# Altium schematic symbol library GradPcb_schlib.SCHLIB: 12 symbols
Pins are listed as number, name and electrical type; pins without a type are passive.

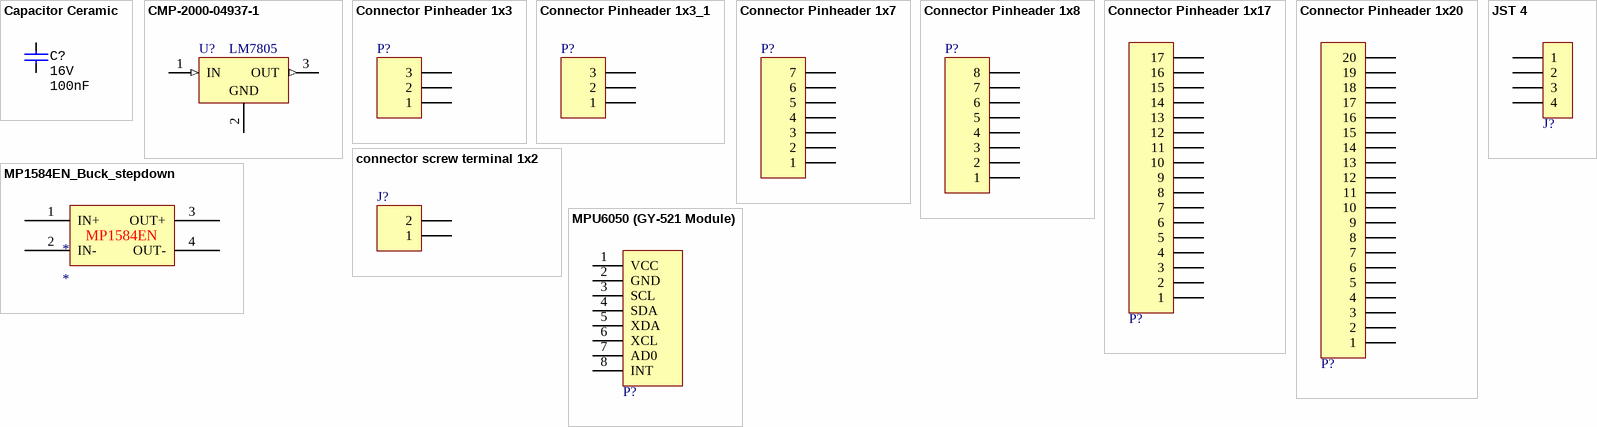
[diagram p0: symbols Capacitor Ceramic to MPU6050 (GY-521 Module)]

## Capacitor Ceramic
designator C?, comment Voltage: 16V  (hidden comment: 100nF)
Manufacturer: Yageo; Part Number: CC0201KRX7R7BB103; Supplier: Digi-Key; Supplier Part Number: 311-1404-2-ND; Capacitance: 100nF
footprint Cap ceramic TH C025-024X044
footprint Cap ceramic TH C025-025X050
footprint Cap ceramic TH C050-025X075
footprint CAP Ceramic SMD 0201
footprint CAP Ceramic SMD 0402
footprint CAP Ceramic SMD 0603
footprint CAP Ceramic SMD 0805
footprint CAP Ceramic SMD 1206
footprint CAP Ceramic SMD 1210
footprint CAP Ceramic SMD 1812
footprint CAP Ceramic SMD 2220
footprint CAP Ceramic TH AY2102M29Y5US63L7 ((220nF))
footprint Cap ceramic TH C025-024X044
footprint Cap ceramic TH C025-025X050
footprint Cap ceramic TH C050-025X075
footprint CAP CERAMIC TH VY2
footprint CAP CERAMIC TH 2.54MM
footprint CAP CERAMIC TH 5.08MM
pins: 1, 2

## CMP-2000-04937-1
designator U?, comment LM7805
Positive Voltage Regulator, 5 V, 1 A, 0 to 125 degC, 3-Pin TO-220, RoHS, Tube; Manufacturer: Fairchild; Manufacturer: onsemi; Manufacturer Part Number: LM7805ACT; Number of Outputs: 1; Typical Dropout Voltage @ Current: 2V@1A; Output Type: Fixed; Output Voltage: 5V; Quiescent Current: 6mA; Dropout Voltage Measurement Current: 1A; Line Regulation: 50mV; Maximum Input Voltage: 35V; Regulator Function: Linear; Load Regulation: 100mV; Package Type: TO-220; Mounting Type: ThroughHole; Height: 16.51mm; Maximum Operating Temperature: +125degC; Datasheet Version: Rev. 1.0.1, 05/2006; Package Reference: TO-220; Minimum Operating Temperature: 0degC; Manufacturer URL: https://www.fairchildsemi.com/; Package URL: https://www.fairchildsemi.com/package-drawings/TO/TO220B03.pdf; Length: 10.67mm; Series: LM78xx; Dimensions: 10.67x4.83x16.51mm; Polarity: Positive; Maximum Output Current: 1A; Pin Count: 3; Width: 4.83mm; Package Description: 3-Pin Through Hole Device, Body 10 x 4.5 mm, Pitch 2.54 mm; Datasheet URL: https://datasheet.ciiva.com/5816/1359194-5816420.pdf
footprint FAIR-TO-220-3 (FM, 3-Leads, Body 10.2x4.7mm, Pitch 2.54mm)
pins: 1 IN (in), 2 GND (power), 3 OUT (out)

## Connector Pinheader 1x3
designator P?  (value not drawn)
Header_3x1
footprint Header 1.27X3
footprint Header 2.54X3
footprint Header F 2.54X3
footprint Header H 2.54X3
footprint Header F 1.27X3
pins: 1, 2, 3

## Connector Pinheader 1x3_1
designator P?, comment Connector Pinheader 1x3  (value not drawn)
Header_3x1
footprint Header 1.27X3
footprint Header 2.54X3
footprint Header F 2.54X3
footprint Header H 2.54X3
footprint Header F 1.27X3
pins: 1, 2, 3

## Connector Pinheader 1x7
designator P?  (value not drawn)
Header_7x1
footprint Header 1.27X7
footprint Header 2.54X7
footprint Header F 2.54X7
footprint Header H 2.54X7
footprint Header F 1.27X7
pins: 1, 2, 3, 4, 5, 6, 7

## Connector Pinheader 1x8
designator P?  (value not drawn)
Header_8x1
footprint Header 1.27X8
footprint Header 2.54X8
footprint Header F 2.54X8
footprint Header H 2.54X8
footprint Header F 1.27X8
pins: 1, 2, 3, 4, 5, 6, 7, 8

## Connector Pinheader 1x17
designator P?  (value not drawn)
Header_17x1
footprint Header 1.27X17
footprint Header 2.54X17
footprint Header F 2.54X17
footprint Header H 2.54X17
footprint Header F 1.27X17
pins: 1, 2, 3, 4, 5, 6, 7, 8, 9, 10, 11, 12, 13, 14, 15, 16, 17

## Connector Pinheader 1x20
designator P?  (value not drawn)
Header_20x1
footprint Header 1.27X20
footprint Header 2.54X20
footprint Header F 2.54X20
footprint Header H 2.54X20
footprint Header F 1.27X20
pins: 1, 2, 3, 4, 5, 6, 7, 8, 9, 10, 11, 12, 13, 14, 15, 16, 17, 18, 19, 20

## connector screw terminal 1x2
designator J?  (value not drawn)
691214110002 - Wire-To-Board Terminal Block, 3.5 mm, 2 Positions, 24 AWG, 16 AWG, 1.5 mm², Screw; Manufacturer: Wurth Electronics; Plating: Brass,Steel; Number of Levels: 1; Number of Positions Per Level: 2; Current: 10A; Voltage: 300V; Wire Gauge (Max): 24AWG; Wire Gauge (Min): 16AWG; Pitch: 0.138inch; Stripping Length: -6mm; Supplier 1: Digi-Key; Manufacturer Part Number: 691214110002; RoHS: Yes; Category: Terminal Blocks; Stock 1: 5949; Pricing 1: 1=0.83000, 10=0.73900, 50=0.63800, 100=0.57100, 500=0.53800, 1400=0.50400 (USD); Mount: Through Hole; Color: Blue,Green; Housing Material: PA66; Contact Material: Brass; Contact Plating: Brass,Tin; Min Operating Temperature: -40°C; Max Operating Temperature: 105°C; Packaging: Bulk; Termination: Screw; Package Quantity: 1400; Number of Contacts: 2; Series: WR-TBL Series 2141; Voltage Rating: 300V; Current Rating: 10A; Length: 7.4mm; Width: 7.9mm; Height: 12.2mm; Wire/Cable Gauge: 24AWG; REACH SVHC: Unknown; RoHS Compliant: Yes; ComponentLink1URL: https://datasheet.ciiva.com/824/6912141100xx-824001.pdf?src-supplier=Digi-Key; ComponentLink1Description: https://datasheet.ciiva.com/824/6912141100xx-824001.pdf?src-supplier=Digi-Key; ComponentLink2URL: https://datasheet.ciiva.com/48693/001088618-da-01-en-wr-tbl-terminal-block2141-691214110002-48693195.pdf?src-supplier=Conrad; ComponentLink2Description: https://datasheet.ciiva.com/48693/001088618-da-01-en-wr-tbl-terminal-block2141-691214110002-48693195.pdf?src-supplier=Conrad; Supplier Part Number 1: 732-2747-ND
footprint Connector screw terminal Block TH 1x2 3.5
footprint Connector screw terminal Block Plugable TH 1x2 3.5R 15EDGRC-3.5-02 (or 691322110002) (Horizontal PCB Header, pitch 3.5mm, 02p)
footprint Connector screw terminal Block Plugable TH 1x2 3.5R 691322310002
footprint Connector screw terminal Block Plugable TH 1x2 3.5 15EDGVC-3.5-02 (or 691321100002) (Vertical PCB Header, pitch 3.5mm, 02p)
footprint Connector screw terminal Block Plugable TH 1x2 5.0 KLS2 (or 691311500002)
footprint Connector screw terminal Block Plugable TH 1x2 5.0R 691313710002
footprint Connector screw terminal Block TH 1x2 5.0
footprint Connector screw terminal Block TH 1x2 5.0 0395430002 (5 mm) (2 pin 5.08mm screw connector)
footprint Connector screw terminal Block TH 1x2 9.5 PDG950-9.5-02P
footprint Connector screw terminal Block TH 1x2 9.5 6PCV-02-006
footprint Connector screw terminal Block TH 1x2 9.5 WJ46-B
pins: 1, 2

## JST 4
designator J?  (value not drawn)
MaleHeader 4x1
footprint VH3.96-4A
footprint VH3.96-4AW
footprint VH3.96-4AWD
footprint XH4/2.54mm/90
footprint XH4/2.54mm/180
footprint XH-4/2.5mm
footprint XH-4/2.5mm/90
pins: 1, 2, 3, 4

## MP1584EN_Buck_stepdown
designator *
footprint MP1584EN_MODULE
pins: 1 IN+, 2 IN-, 3 OUT+, 4 OUT-
text: MP1584EN

## MPU6050 (GY-521 Module)
designator P?  (value not drawn)
footprint MPU6050 (GY-521 Module)
footprint MPU6050 (GY-521 Module) 90DEG
footprint MPU6050 (GY-521 Module) 90deg 2
pins: 1 VCC "LOWER VOLTAGE", 2 GND "LOWER VOLTAGE", 3 SCL "LOWER VOLTAGE", 4 SDA "LOWER VOLTAGE", 5 XDA "LOWER VOLTAGE", 6 XCL "LOWER VOLTAGE", 7 AD0 "LOWER VOLTAGE", 8 INT "LOWER VOLTAGE"